# Altium footprint library TS2306A240GFMSM9_C388290.PcbLib: 1 footprints
Each footprint in its own frame and in the unit in brackets; x right, y up, seen from the top. Pads: shape width x height; smd on the part's side, far side on the other; paste and mask are expansions set on the pad; w line width, h text height; cw(c..) or ccw(c..) is an arc to the next point about the centre after c.
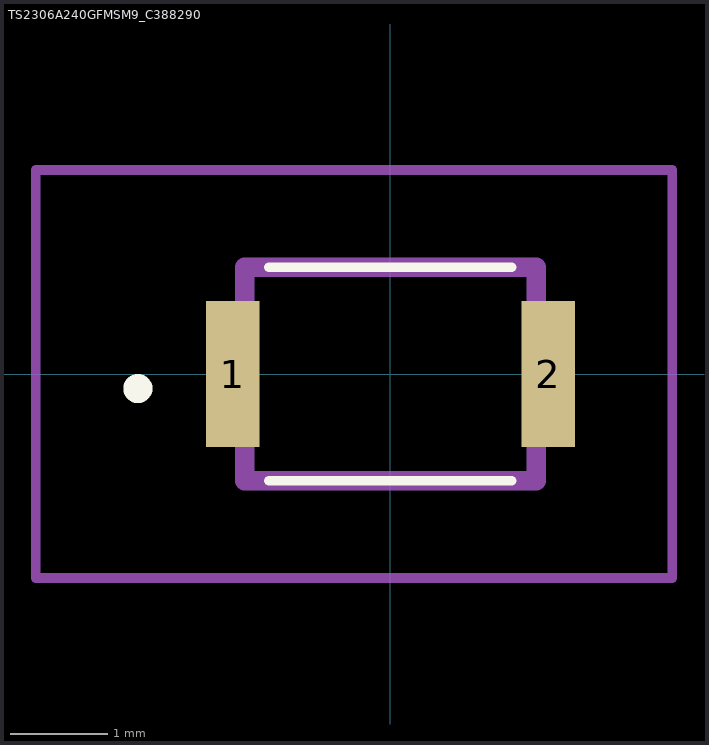
[diagram p0: the footprint, top view; thin cyan lines are the x and y axes]

## TS2306A240GFMSM9_C388290 [mm]
pads (2):
  rect 0.55x1.5 smd: 1(-1.625,0) 2(1.625,0)
Top Overlay:
  lines w0.1: -1.25,-1.1 1.25,-1.1 ; -1.25,-1.1 1.25,-1.1 ; -1.25,-1.1 -1.25,-1.1 ; -1.25,1.1 1.25,1.1 ; -1.25,1.1 1.25,1.1 ; -1.25,1.1 -1.25,1.1 ; 1.25,-1.1 1.25,-1.1 ; 1.25,1.1 1.25,1.1
  lines w0.2: -2.6,-0.2 cw(c-2.6,-0.15) -2.6,-0.1 ; -2.6,-0.2 -2.6,-0.2 ; -2.6,-0.2 ccw(c-2.6,-0.15) -2.6,-0.1 ; -2.6,-0.2 cw(c-2.6,-0.15) -2.6,-0.1 ; -2.6,-0.1 -2.6,-0.1 ; -2.6,-0.1 -2.6,-0.1
Mechanical 15:
  lines w0.2: -1.5,-1.1 1.5,-1.1 1.5,1.1 -1.5,1.1 -1.5,-1.1
Mechanical 20:
  lines w0.1: -3.65,-2.1 2.9,-2.1 2.9,2.1 -3.65,2.1 -3.65,-2.1
3D body "TS2306A-240GF-MSM-9_C388290.stp": height 5.8, standoff -4.65, extent -10,-3.376 10,3.376